# Altium integrated library Linear Technology PMIC-Switching Reg LTC1174-LTC3901.IntLib: 2647 symbols (part 261 of 310)
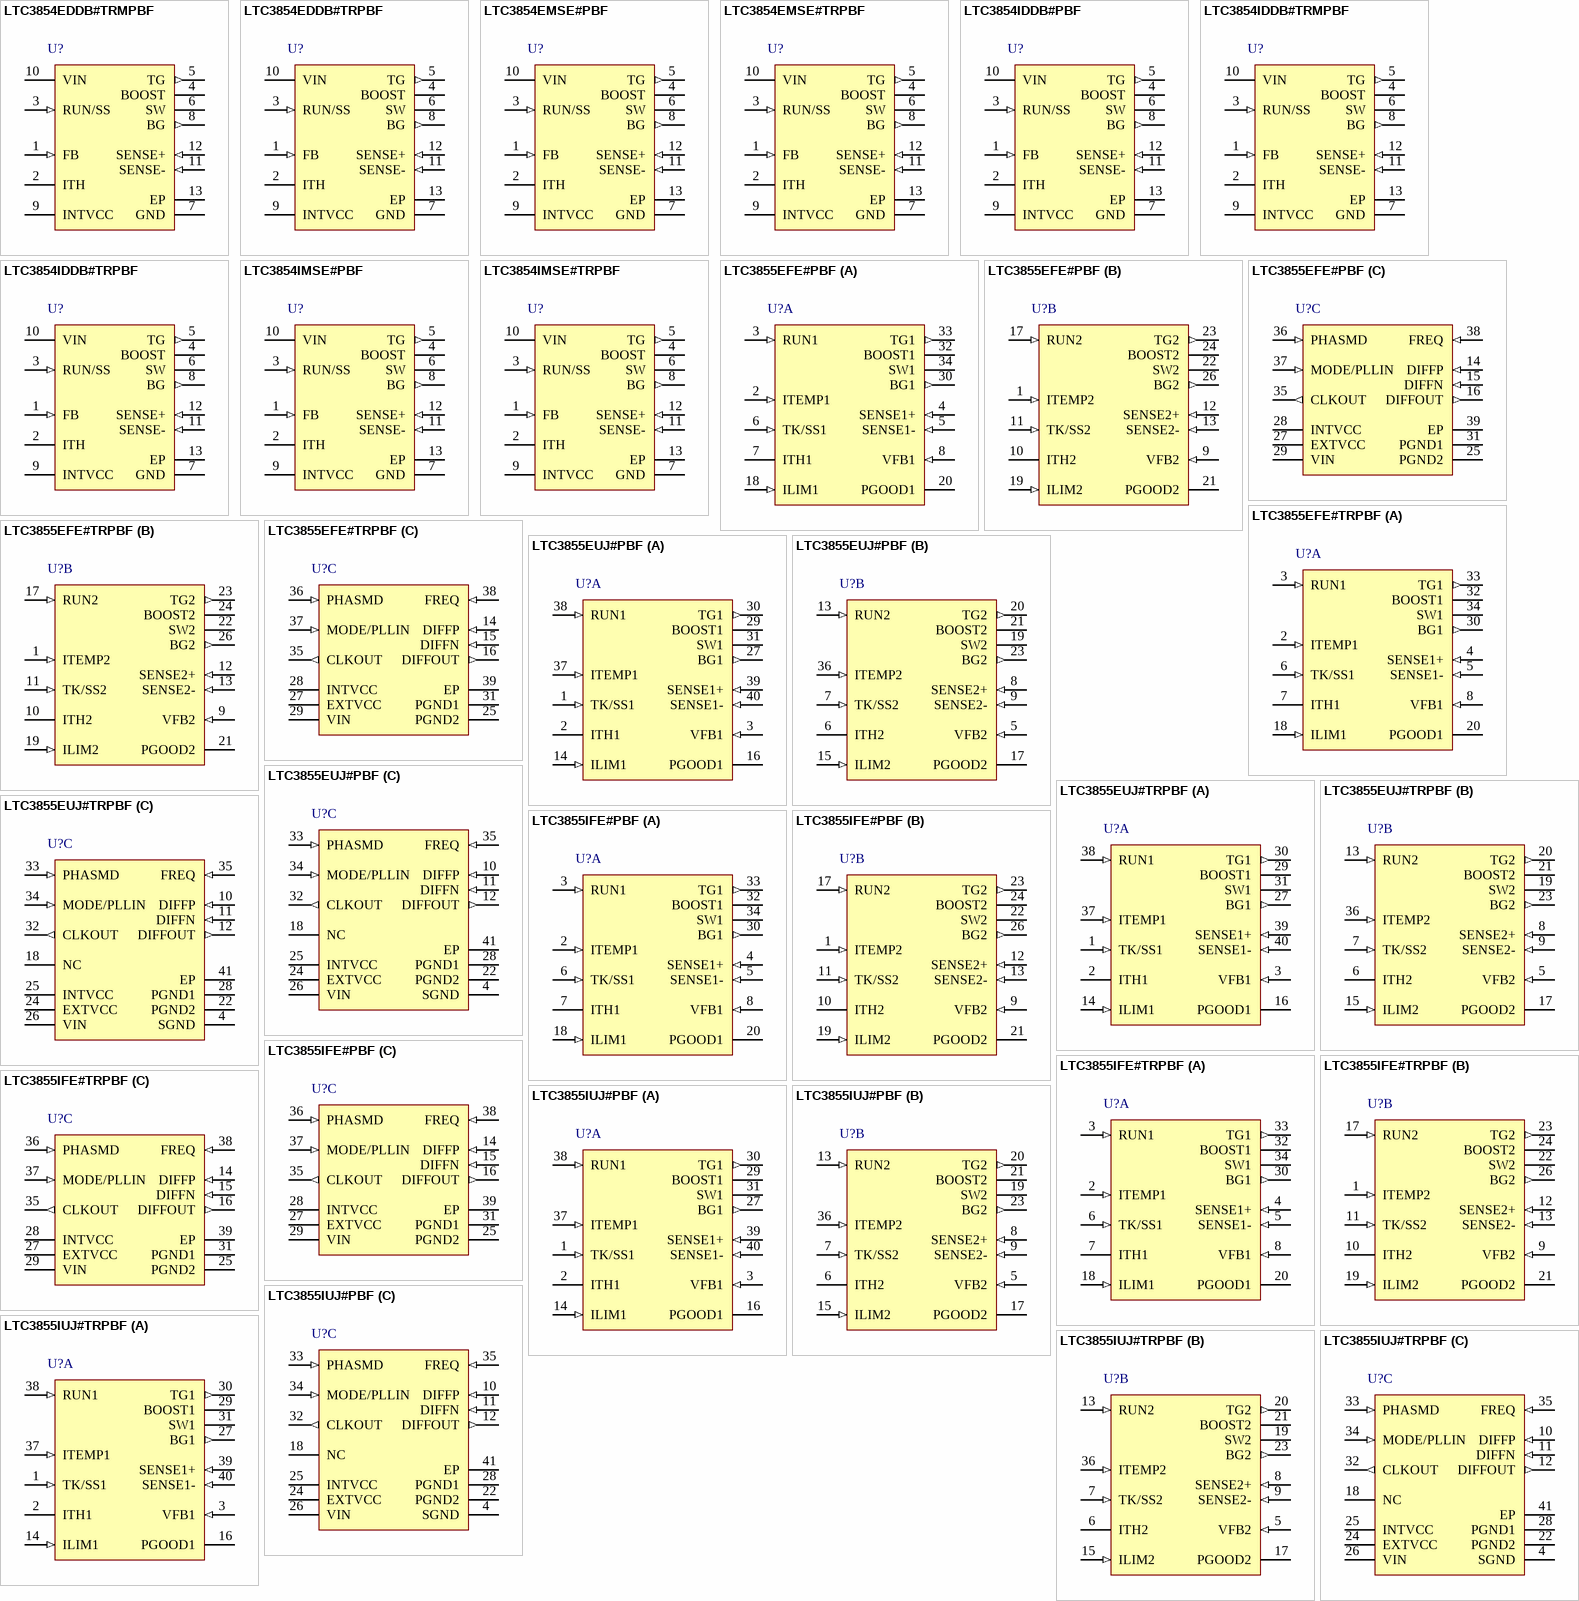
[diagram p371: symbols LTC3854EDDB#TRMPBF to LTC3855IUJ#TRPBF]

## LTC3854EDDB#TRMPBF
designator U?
Small Package Range Synchronous Step-Down Controller, 4.5 to 38 V Vin, 12-pin SON (DDB-12), -40 to 85 degC, Pb-Free, Tape and Reel; Manufacturer: Linear Technology; PartNumber: LTC3854EDDB#TRMPBF; Number of Outputs: 1; PackageReference: DDB-12; PackageDescription: 12-Pin Plastic DFN, Body 3 x 2 mm, Pitch 0.45 mm; Supplier 1: Digi-Key; Supplier Part Number 1: LTC3854EDDB#TRMPBF-ND; RoHS: TRUE
footprint LT-DDB-12_V (SON, 12-Leads, Body 3x2mm, Pitch 0.45mm, Thermal Pad 2.39x0.64mm)
pins: 1 FB (in) "Error Amplifier Feedback Input. This pin receives the remotely-sensed feedback voltage from an external resistor divider across the output.", 2 ITH "Error Amplifier Output and Switching Regulator Compensation Point. The current comparator trip point increases with this control voltage.", 3 RUN/SS (in) "Run Control, Soft-Start. If the voltage on this pin is held below 0.4V, the part is in shutdown. If the pin is released the capacitance to ground at this pin sets the soft-start ramp rate. An internal 1.25uA soft-start (See Datasheet)", 4 BOOST "Bootstrapped Supply to the Top Side Floating Driver. A low ESR capacitor is connected between the BOOST and SW pins and an external Schottky diode is tied between the BOOST and INTVCC pins. The voltage swing on the BOOST pin (See Datasheet)", 5 TG (out) "High Current Gate Drive for Top N-channel MOSFET. This is the output of floating driver with a voltage swing equal to INTVCC superimposed on the switch node voltage.", 6 SW "Switch Node Connection to Inductor. The voltage swing on this pin is from a Schottky diode (external) forward voltage (when this diode is added across the Nchannel synchronous MOSFET) below ground to VIN.", 7 GND (power) "Small Signal and Power Ground. This is the high current ground for the gate driver. The internal signal ground is Kelvin connected to this pin for noise suppression.", 8 BG (out) "High Current Gate Drive for Bottom (Synchronous) N-channel MOSFET. The voltage swing at this pin is from ground to INTVCC.", 9 INTVCC (power) "Output of the Internal 5V Low Dropout Regulator. The driver and control circuits are powered from this voltage. Must be decoupled to power ground with a minimum of 2.2uF low ESR ceramic capacitor (X5R or better).", 10 VIN (power) "Main Supply Pin. A bypass capacitor should be tied between this pin and the signal ground pin.", 11 SENSE- (in) "The (-) Input to the Differential Current Comparator.", 12 SENSE+ (in) "The (+) Input to the Differential Current Comparator. The ITH pin voltage and controlled offsets between the SENSE- and SENSE+ pins in conjunction with RSENSE (or RDCR) set the peak current trip threshold.", 13 EP (power) "The exposed pad must be soldered to PCB ground for electrical contact and rated thermal performance."